# Altium schematic symbol library Resonators.SchLib: 3 symbols
Pins are listed as number, name and electrical type; pins without a type are passive.

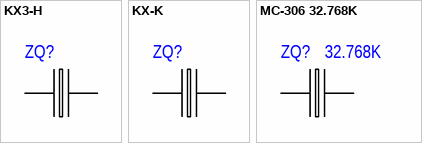
[diagram p0: symbols KX3-H to MC-306 32.768K]

## KX3-H
designator ZQ?
Manufacturer: Geyer; Note: KX-3H
footprint KX-3H
pins: 1, 2

## KX-K
designator ZQ?
Manufacturer: Geyer; Note: KX-K
footprint KX-K
pins: 1, 2

## MC-306 32.768K
designator ZQ?, comment 32.768K
Part Number: MC-306 32.768K; Manufacturer: EPSON
footprint 32768 kHz (SMD, 4-Leads, Body 8x3.8mm, Pitch 5.5mm, Height 2.5mm)
pins: 1, 4